# Altium schematic symbol library THC63LVD1024.Schlib: 1 symbol
Pins are listed as number, name and electrical type; pins without a type are passive.

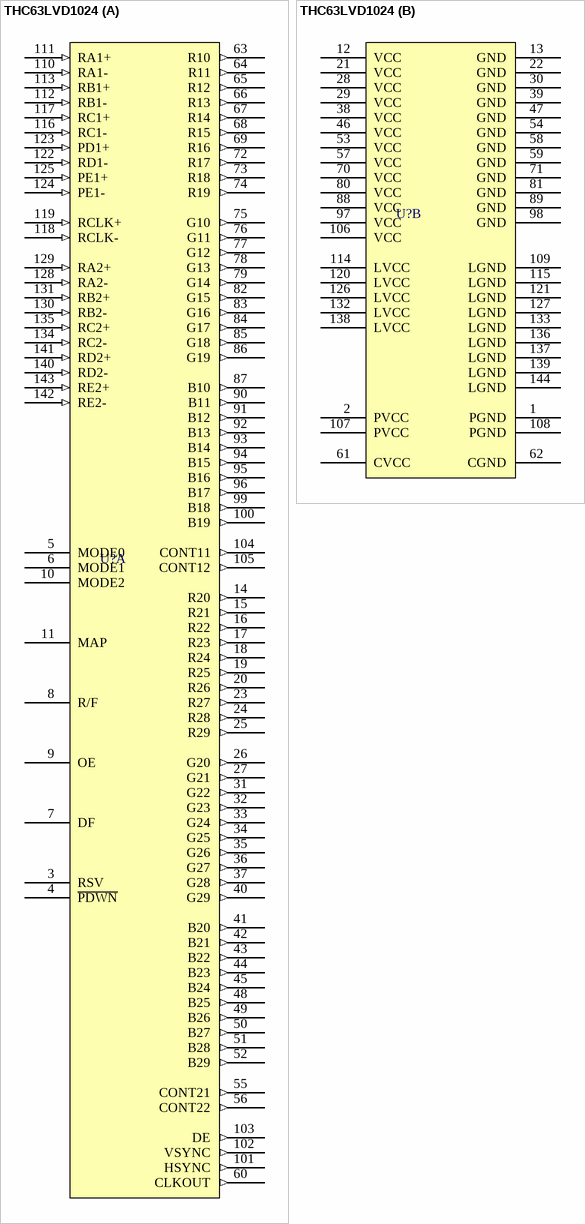
[diagram p0: symbol THC63LVD1024]

## THC63LVD1024
designator U?
30Bit Color/135MHz Dual Link LVDS to LVCMOS converter
part A pins: 3 RSV, 4 ~{PDWN}, 5 MODE0, 6 MODE1, 7 DF, 8 R/F, 9 OE, 10 MODE2, 11 MAP, 14 R20 (out), 15 R21 (out), 16 R22 (out), 17 R23 (out), 18 R24 (out), 19 R25 (out), 20 R26 (out), 23 R27 (out), 24 R28 (out), 25 R29 (out), 26 G20 (out), 27 G21 (out), 31 G22 (out), 32 G23 (out), 33 G24 (out), 34 G25 (out), 35 G26 (out), 36 G27 (out), 37 G28 (out), 40 G29 (out), 41 B20 (out), 42 B21 (out), 43 B22 (out), 44 B23 (out), 45 B24 (out), 48 B25 (out), 49 B26 (out), 50 B27 (out), 51 B28 (out), 52 B29 (out), 55 CONT21 (out), 56 CONT22 (out), 60 CLKOUT (out), 63 R10 (out), 64 R11 (out), 65 R12 (out), 66 R13 (out), 67 R14 (out), 68 R15 (out), 69 R16 (out), 72 R17 (out), 73 R18 (out), 74 R19 (out), 75 G10 (out), 76 G11 (out), 77 G12 (out), 78 G13 (out), 79 G14 (out), 82 G15 (out), 83 G16 (out), 84 G17 (out), 85 G18 (out), 86 G19 (out), 87 B10 (out), 90 B11 (out), 91 B12 (out), 92 B13 (out), 93 B14 (out), 94 B15 (out), 95 B16 (out), 96 B17 (out), 99 B18 (out), 100 B19 (out), 101 HSYNC (out), 102 VSYNC (out), 103 DE (out), 104 CONT11 (out), 105 CONT12 (out), 110 RA1- (in), 111 RA1+ (in), 112 RB1- (in), 113 RB1+ (in), 116 RC1- (in), 117 RC1+ (in), 118 RCLK- (in), 119 RCLK+ (in), 122 RD1- (in), 123 PD1+ (in), 124 PE1- (in), 125 PE1+ (in), 128 RA2- (in), 129 RA2+ (in), 130 RB2- (in), 131 RB2+ (in), 134 RC2- (in), 135 RC2+ (in), 140 RD2- (in), 141 RD2+ (in), 142 RE2- (in), 143 RE2+ (in)
part B pins: 1 PGND (power), 2 PVCC (power), 12 VCC (power), 13 GND (power), 21 VCC (power), 22 GND (power), 28 VCC (power), 29 VCC (power), 30 GND (power), 38 VCC (power), 39 GND (power), 46 VCC (power), 47 GND (power), 53 VCC (power), 54 GND (power), 57 VCC (power), 58 GND (power), 59 GND (power), 61 CVCC (power), 62 CGND (power), 70 VCC (power), 71 GND (power), 80 VCC (power), 81 GND (power), 88 VCC (power), 89 GND (power), 97 VCC (power), 98 GND (power), 106 VCC (power), 107 PVCC (power), 108 PGND (power), 109 LGND (power), 114 LVCC (power), 115 LGND (power), 120 LVCC (power), 121 LGND (power), 126 LVCC (power), 127 LGND (power), 132 LVCC (power), 133 LGND (power), 136 LGND (power), 137 LGND (power), 138 LVCC (power), 139 LGND (power), 144 LGND (power)